# Altium footprint library libreriaPcb.PcbLib: 683 footprints (part 36 of 44)
Each footprint in its own frame and in the unit in brackets; x right, y up, seen from the top. Pads: shape width x height; smd on the part's side, far side on the other; paste and mask are expansions set on the pad; w line width, h text height; cw(c..) or ccw(c..) is an arc to the next point about the centre after c.
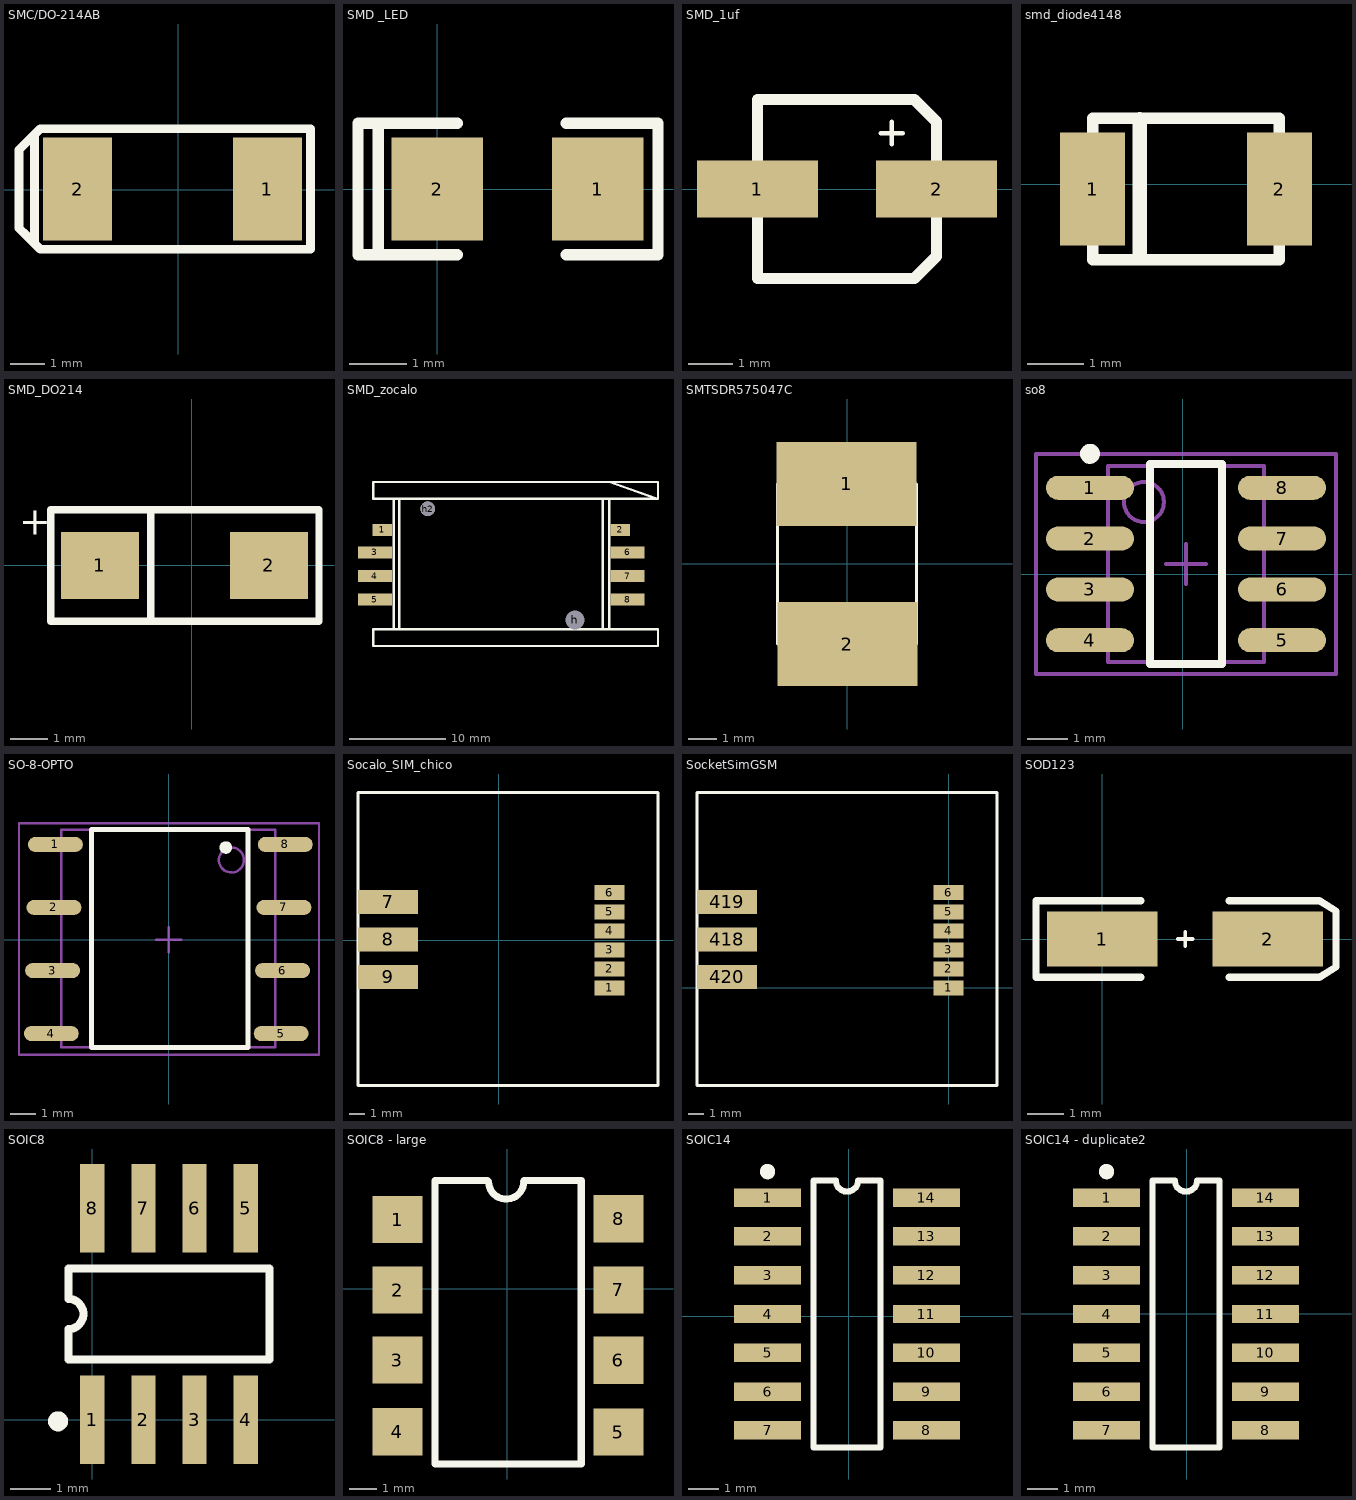
[diagram p35: the footprints below, top view; thin cyan lines are the x and y axes]

## SMC/DO-214AB [mm]
pads (2):
  rect 2x3 smd: 1(2.575,0.017) 2(-2.925,0.017)
Top Overlay:
  lines w0.254: -4.625,-0.683 -4.625,-1.119 ; -4.175,-1.569 -4.175,-1.54 ; -4.175,1.574 -4.175,-1.54 ; -4.625,-1.119 -4.625,1.152 -4.011,1.767 -3.97,1.767 3.825,1.767 3.825,-1.733 -3.97,-1.733 -4.011,-1.733 -4.625,-1.119 ; -4.625,-1.119 -4.175,-1.54
3D body: height 3, standoff 0.2, extent -2.45,-1.358 2.35,1.392
3D body: height 3.1, standoff 3, extent -1.95,-1.358 -1.175,1.367
3D body: height 2.5, standoff 0, extent 2.35,-1.358 3.125,1.367
3D body: height 2.5, standoff 0, extent -3.2,-1.333 -2.425,1.392

## SMD _LED [mm] "SMT LED; 2 Leads"
height 23.3
pads (2):
  rect 1.6x1.8 smd: 1(2.8,0) 2(0,0)
Top Overlay:
  lines w0.2: -1.03,-1.15 -1.03,1.15 ; 0.35,-1.15 -1.38,-1.15 -1.38,1.15 0.35,1.15 ; 2.25,-1.15 3.85,-1.15 3.85,1.15 2.25,1.15

## SMD_1uf [mm]
pads (2):
  rect 2.7x1.27 smd: 1(-6.25,0) 2(-2.25,0)
Top Overlay:
  lines w0.1: -3.5,1.25 -3,1.25 ; -3.25,1 -3.25,1.5
  lines w0.254: -6.25,-2 -6.25,0 -6.25,2 -2.75,2 -2.25,1.5 -2.25,-1.5 -2.75,-2 -6.25,-2
3D body: height 5, standoff 0, extent -6.251,-2.001 -2.249,2.001

## smd_diode4148 [mm]
pads (2):
  rect 1.15x2 smd: 1(-4.69,-0.08) 2(-1.39,-0.08)
Top Overlay:
  lines w0.2: -4.69,-1.33 -4.69,-0.08 -4.69,1.17 -1.39,1.17 -1.39,-1.33 -4.69,-1.33
  lines w0.254: -3.86,1.15 -3.86,-1.28 -3.84,-1.3
3D body: height 1, standoff 0, extent -4.33,-0.87 -1.73,0.73
3D body: height 1, standoff 0, extent -4.63,-0.87 -4.33,0.73
3D body: height 1, standoff 0, extent -1.73,-0.87 -1.43,0.73

## SMD_DO214 [mm]
pads (2):
  rect 2.1x1.8 smd: 1(-2.475,0) 2(2.075,0)
Top Overlay:
  lines w0.2: -1.1,-1.5 -1.1,1.5 ; -3.8,-1.5 3.425,-1.5 3.425,1.5 -3.8,1.5 -3.8,-1.5
  text "+" at -4.65,0.825 h0.75
3D body: height 2.05, standoff 0, extent -1.725,-1.3 -1.15,1.3
3D body: height 1, standoff 0, extent 2.075,-0.7 2.375,0.7
3D body: height 1, standoff 0, extent -2.475,-0.7 -2.175,0.7
3D body: height 2, standoff 0, extent -2.175,-1.3 2.075,1.3

## SMD_zocalo [mm]
pads (10):
  rect 2x1.25 smd: 1(-177.39,-68.64) 2(-152.7,-68.65)
  rect 3.5x1.25 smd: 3(-178.14,-70.98) 4(-178.14,-73.43) 5(-178.14,-75.88) 6(-151.94,-70.98) 7(-151.94,-73.43) 8(-151.94,-75.88)
  round 1.524 hole 2: h(-157.4,-77.98)
  round 1.524 hole 1.5: h2(-172.67,-66.46)
Top Overlay:
  lines w0.254: -178.29,-65.38 -178.29,-65.43 ; -176.19,-78.93 -176.19,-65.43 ; -175.61,-78.93 -175.61,-65.43 ; -154.53,-78.93 -154.53,-65.43 ; -153.85,-78.89 -153.85,-65.43 ; -153.79,-63.68 -148.89,-65.43 -148.79,-65.43 ; -178.29,-65.43 -176.29,-65.43 -153.79,-65.43 -148.79,-65.43 ; -178.29,-65.43 -178.29,-63.68 -148.79,-63.68 -148.79,-65.43 ; -178.29,-80.68 -178.29,-78.93 -176.29,-78.93 -153.79,-78.93 -148.84,-78.93 -148.79,-78.98 -148.79,-80.68 -153.79,-80.68 -178.29,-80.68
3D body: height 0, standoff 0, extent -175.609,-78.929 -154.531,-65.431

## SMTSDR575047C [mm] "Inductor"
height 4.7
pads (2):
  rect 5x3 smd: 1(-0.025,2.85) 2(0,-2.875)
Top Overlay:
  lines w0.1: -0.025,2.85 -2.5,2.85 -2.5,-2.875 0,-2.875 2.475,-2.875 ; 0,2.85 2.475,2.85 2.475,-2.85

## so8 [mm]
pads (8):
  oval 2.2x0.6 smd: 1(-2.32,2.157) 2(-2.32,0.887) 3(-2.32,-0.383) 4(-2.32,-1.653) 5(2.48,-1.653) 6(2.48,-0.383) 7(2.48,0.887) 8(2.48,2.157)
Top Overlay:
  circle w0.25: c-2.32,3.007 r0.125
  lines w0.2: -0.82,-2.248 0.98,-2.248 0.98,2.752 -0.82,2.752 -0.82,-2.248
Mechanical 13:
  circle w0.1: c-0.97,1.802 r0.5
  lines w0.1: -1.87,-2.198 2.03,-2.198 2.03,2.702 -1.87,2.702 -1.87,-2.198
Mechanical 15:
  lines w0.1: -0.42,0.252 0.58,0.252 ; 0.08,-0.248 0.08,0.752 ; -3.67,-2.498 3.83,-2.498 3.83,3.002 -3.67,3.002 -3.67,-2.498
3D body: height 1.75, standoff 0, extent -1.87,-2.198 2.03,2.702

## SO-8-OPTO [mm]
height 5
pads (8):
  oval 2.2x0.6 smd: 1(-4.546,3.821) 2(-4.6,1.3) 3(-4.654,-1.221) 4(-4.708,-3.742) 5(4.492,-3.742) 6(4.546,-1.221) 7(4.6,1.3) 8(4.654,3.821)
Top Overlay:
  circle w0.25: c2.275,3.7 r0.125
  lines w0.2: -3.1,-4.3 -3.1,4.416 3.154,4.416 3.154,-4.3 -3.1,-4.3
Mechanical 13:
  circle w0.1: c2.5,3.2 r0.5
  lines w0.1: -4.3,-4.3 -4.3,4.416 4.254,4.416 4.254,-4.3 -4.3,-4.3
Mechanical 15:
  lines w0.1: -0.5,0 0.5,0 ; 0,-0.5 0,0.5 ; -6,-4.6 -6,4.666 6.004,4.666 6.004,-4.6 -6,-4.6
3D body: height 1.75, standoff 0, extent -4.3,-4.3 4.254,4.416

## Socalo_SIM_chico [mm]
pads (9):
  rect 2x1 smd: 1(7.39,-3.175) 2(7.39,-1.905) 3(7.39,-0.635) 4(7.39,0.635) 5(7.39,1.905) 6(7.39,3.175)
  rect 4x1.6 smd: 7(-7.39,2.57) 8(-7.39,0.07) 9(-7.39,-2.43)
Top Overlay:
  lines w0.2: -9.39,-9.66 -9.39,9.84 10.61,9.84 10.61,-9.66 -9.39,-9.66
3D body: height 1, standoff 0, extent -9.49,-9.76 10.71,9.94

## SocketSimGSM [mm]
pads (9):
  rect 2x1 smd: 1(0,0) 2(0,1.27) 3(0,2.54) 4(0,3.81) 5(0,5.08) 6(0,6.35)
  rect 4x1.6 smd: 418(-14.78,3.245) 419(-14.78,5.745) 420(-14.78,0.745)
Top Overlay:
  lines w0.2: -16.78,-6.485 3.22,-6.485 3.22,13.015 -16.78,13.015 -16.78,-6.485

## SOD123 [mm]
pads (2):
  rect 3x1.5 smd: 1(0,0) 2(4.5,0)
Top Overlay:
  lines w0.1: 2.05,0 2.45,0 ; 2.25,-0.2 2.25,0.2
  lines w0.2: 1.05,-1.042 -1.804,-1.042 -1.804,1.042 1.05,1.042 ; 3.45,-1.042 5.9,-1.042 6.35,-0.762 6.35,0.762 5.9,1.042 3.45,1.042

## SOIC8 [mm] "SMD"
pads (8):
  rect 0.6x2.2 smd: 1(0,0) 2(1.27,0) 3(2.54,0) 4(3.81,0) 5(3.81,5.25) 6(2.54,5.25) 7(1.27,5.25) 8(0,5.25)
Top Overlay:
  circle w0.25: c-0.85,-0.04 r0.125
  lines w0.2: -0.595,1.5 4.405,1.5 4.405,3.75 -0.595,3.75 -0.595,3 cw(c-0.595,2.625) -0.595,2.25 -0.595,1.5

## SOIC8 - large [mm]
pads (8):
  rect 1.8x1.7 smd: 1(-3.96,2.5) 2(-3.96,-0.05) 3(-3.97,-2.57) 4(-3.97,-5.161) 5(4.01,-5.171) 6(4.01,-2.58) 7(4.01,-0.04) 8(4.02,2.53)
Top Overlay:
  lines w0.254: -0.72,3.91 -2.61,3.91 -2.61,-6.325 2.67,-6.325 2.67,3.91 1.61,3.91 0.6,3.91 ; -0.676,3.871 ccw(c-0.041,3.871) 0.594,3.871
3D body: height 3, standoff 0, extent -2.737,-6.426 2.797,4.037

## SOIC14 [mm]
pads (14):
  rect 2.2x0.6 smd: 1(-2.654,3.883) 2(-2.654,2.613) 3(-2.654,1.343) 4(-2.654,0.073) 5(-2.654,-1.197) 6(-2.654,-2.467) 7(-2.654,-3.737) 8(2.546,-3.737) 9(2.546,-2.467) 10(2.546,-1.197) 11(2.546,0.073) 12(2.546,1.343) 13(2.546,2.613) 14(2.546,3.883)
Top Overlay:
  circle w0.25: c-2.654,4.733 r0.125
  lines w0.2: -1.154,-4.302 1.046,-4.302 1.046,4.448 0.313,4.448 cw(c-0.054,4.448) -0.421,4.448 -1.154,4.448 -1.154,-4.302
3D body: height 1.75, standoff 0, extent -2.14,-4.33 1.85,4.52

## SOIC14 - duplicate2 [mm]
pads (14):
  rect 2.2x0.6 smd: 1(-2.624,3.809) 2(-2.624,2.539) 3(-2.624,1.269) 4(-2.624,-0.001) 5(-2.624,-1.271) 6(-2.624,-2.541) 7(-2.624,-3.811) 8(2.576,-3.811) 9(2.576,-2.541) 10(2.576,-1.271) 11(2.576,-0.001) 12(2.576,1.269) 13(2.576,2.539) 14(2.576,3.809)
Top Overlay:
  circle w0.25: c-2.624,4.659 r0.125
  lines w0.2: -1.124,-4.376 1.076,-4.376 1.076,4.374 0.343,4.374 cw(c-0.024,4.374) -0.39,4.374 -1.124,4.374 -1.124,-4.376
3D body: height 1.75, standoff 0, extent -2.11,-4.404 1.88,4.446